# Altium schematic symbol library KeyBoard.SchLib: 3 symbols
Pins are listed as number, name and electrical type; pins without a type are passive.

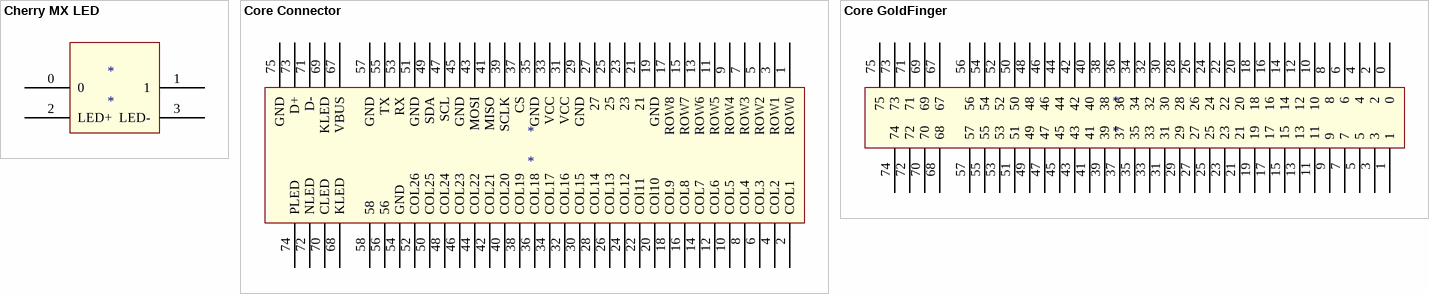
[diagram p0: symbols Cherry MX LED to Core GoldFinger]

## Cherry MX LED
designator *
footprint Cherry Standard MX Switch
footprint CHERRY  MX (带热插拔)
pins: 0, 1, 2 LED+, 3 LED-

## Core Connector
designator *
footprint Core Connector
pins: 1 ROW0, 2 COL1, 3 ROW1, 4 COL2, 5 ROW2, 6 COL3, 7 ROW3, 8 COL4, 9 ROW4, 10 COL5, 11 ROW5, 12 COL6, 13 ROW6, 14 COL7, 15 ROW7, 16 COL8, 17 ROW8, 18 COL9, 19 GND, 20 COl10, 21, 22 COl11, 23, 24 COL12, 25, 26 COL13, 27, 28 COL14, 29 GND, 30 COL15, 31 VCC, 32 COL16, 33 VCC, 34 COL17, 35 GND, 36 COL18, 37 CS, 38 COL19, 39 SCLK, 40 COL20, 41 MISO, 42 COL21, 43 MOSI, 44 COL22, 45 GND, 46 COL23, 47 SCL, 48 COL24, 49 SDA, 50 COL25, 51 GND, 52 COL26, 53 RX, 54 GND, 55 TX, 56, 57 GND, 58, 67 VBUS, 68 KLED, 69 KLED, 70 CLED, 71 D-, 72 NLED, 73 D+, 74 PLED, 75 GND

## Core GoldFinger
designator *
footprint Core GoldFinger
pins: 0, 1, 2, 3, 4, 5, 6, 7, 8, 9, 10, 11, 12, 13, 14, 15, 16, 17, 18, 19, 20, 21, 22, 23, 24, 25, 26, 27, 28, 29, 30, 31, 32, 33, 34, 35, 36, 37, 38, 39, 40, 41, 42, 43, 44, 45, 46, 47, 48, 49, 50, 51, 52, 53, 54, 55, 56, 57, 67, 68, 69, 70, 71, 72, 73, 74, 75